# Altium footprint library IC packages.PcbLib: 68 footprints (part 3 of 5)
Each footprint in its own frame and in the unit in brackets; x right, y up, seen from the top. Pads: shape width x height; smd on the part's side, far side on the other; paste and mask are expansions set on the pad; w line width, h text height; cw(c..) or ccw(c..) is an arc to the next point about the centre after c.
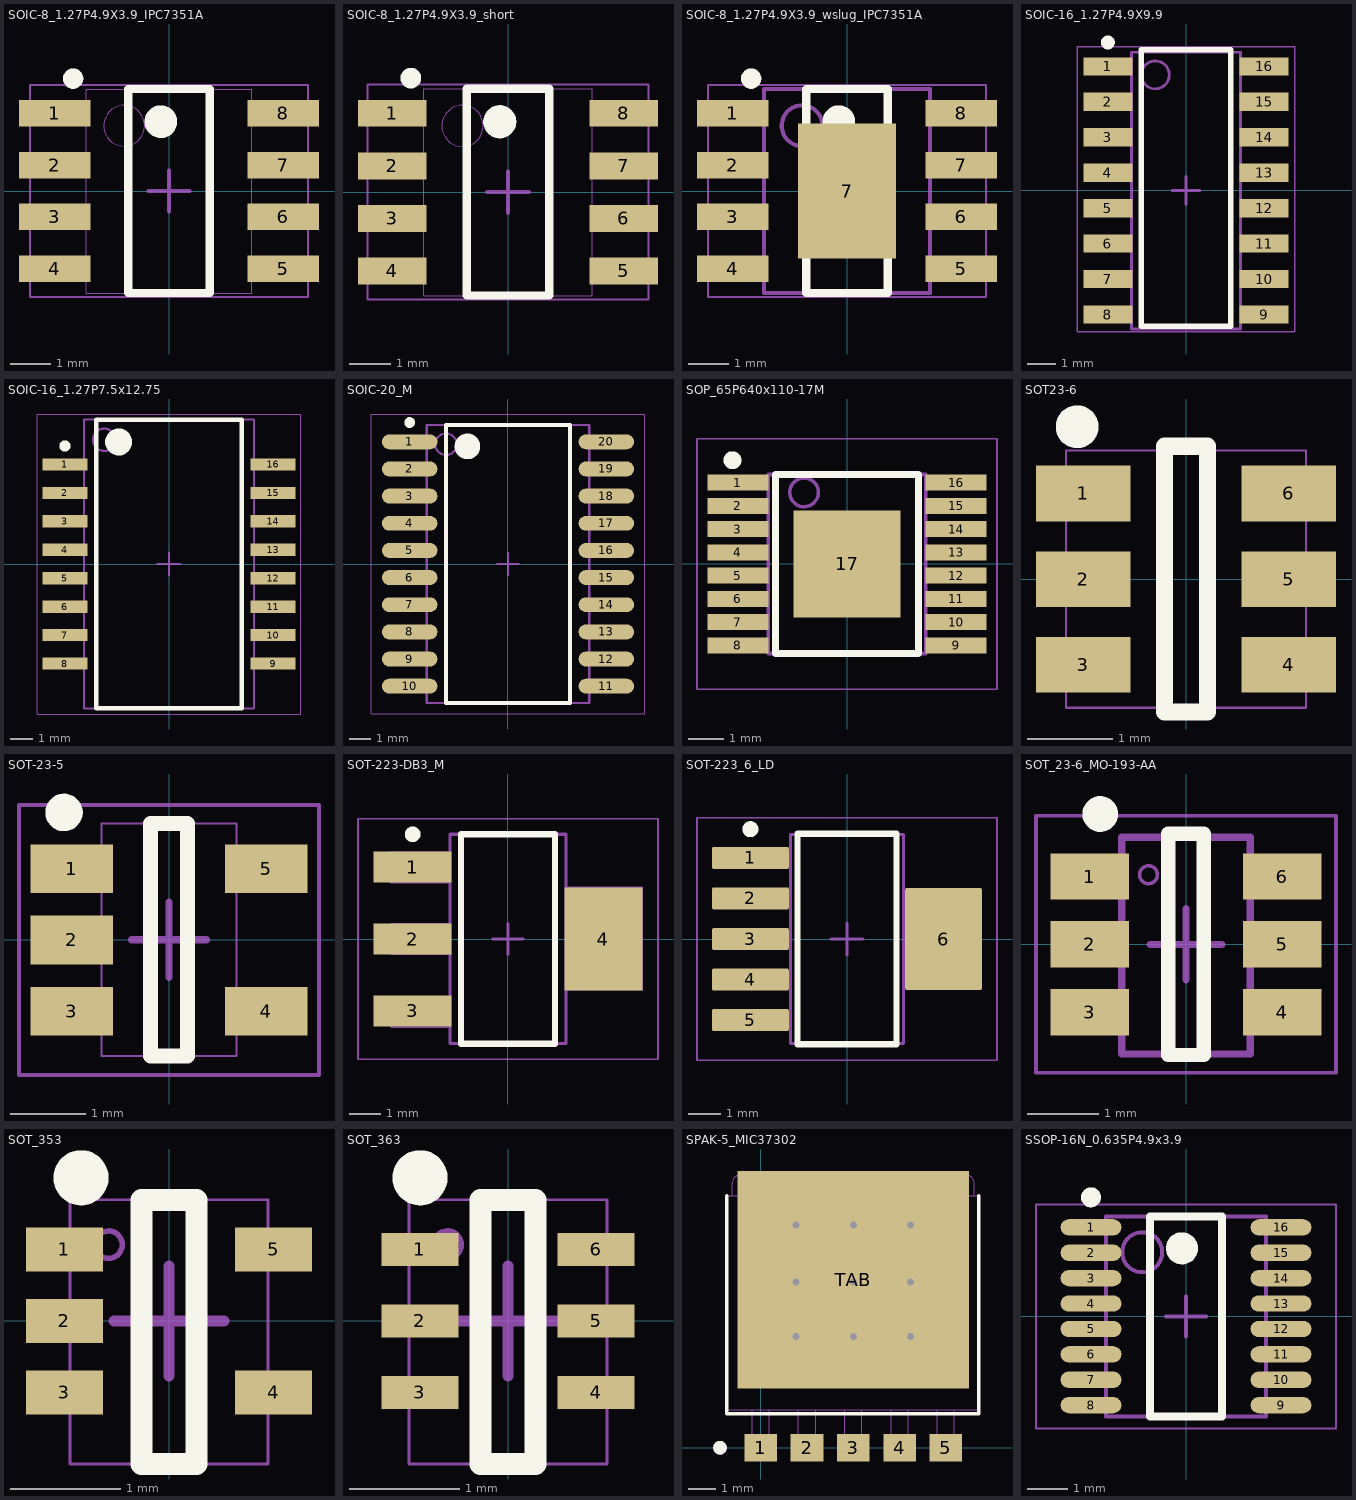
[diagram p2: the footprints below, top view; thin cyan lines are the x and y axes]

## SOIC-8_1.27P4.9X3.9_IPC7351A [mm] "SOIC, 8-Leads, Body 4.90x3.90mm, Pitch 1.27mm, IPC High Density"
height 1.75
pads (8):
  rect 1.75x0.65 smd: 1(-2.8,1.905) 2(-2.8,0.635) 3(-2.8,-0.635) 4(-2.8,-1.905) 5(2.8,-1.905) 6(2.8,-0.635) 7(2.8,0.635) 8(2.8,1.905)
Top Overlay:
  circle w0.25: c-2.35,2.755 r0.125
  circle w0.4: c-0.2,1.7 r0.2
  lines w0.2: -1,-2.5 -1,2.5 1,2.5 1,-2.5 -1,-2.5
Mechanical 1:
  circle w0.025: c-1.1,1.6 r0.5
  lines w0.025: -2.032,-2.5 -2.032,2.5 2.032,2.5 2.032,-2.5 -2.032,-2.5
  text ".Designator" at -1.778,2.794 h1.52
Mechanical 15:
  lines w0.05: -3.4,-2.6 -3.4,2.6 3.4,2.6 3.4,-2.6 -3.4,-2.6
  lines w0.1: -0.5,0 0.5,0 ; 0,-0.5 0,0.5
3D body "SOIC8_JEDEC_MS-012AA.step": height 1.75, standoff -0.01, extent -3.099,-2.5 3.1,2.5

## SOIC-8_1.27P4.9X3.9_short [mm] "SOIC, 8-Leads, Body 4.90x3.90mm, Pitch 1.27mm"
height 1.75
pads (8):
  rect 1.65x0.65 smd: 1(-2.8,1.905) 2(-2.8,0.635) 3(-2.8,-0.635) 4(-2.8,-1.905) 5(2.8,-1.905) 6(2.8,-0.635) 7(2.8,0.635) 8(2.8,1.905)
Top Overlay:
  circle w0.25: c-2.35,2.755 r0.125
  circle w0.4: c-0.2,1.7 r0.2
  lines w0.2: -1,-2.5 -1,2.5 1,2.5 1,-2.5 -1,-2.5
Mechanical 1:
  circle w0.025: c-1.1,1.6 r0.5
  lines w0.025: -2.032,-2.5 -2.032,2.5 2.032,2.5 2.032,-2.5 -2.032,-2.5
  text ".Designator" at -1.778,2.794 h1.52
Mechanical 15:
  lines w0.05: -3.4,-2.6 -3.4,2.6 3.4,2.6 3.4,-2.6 -3.4,-2.6
  lines w0.1: -0.5,0 0.5,0 ; 0,-0.5 0,0.5
3D body "SOIC8_JEDEC_MS-012AA.step": height 1.75, standoff -0.01, extent -3.099,-2.5 3.1,2.5

## SOIC-8_1.27P4.9X3.9_wslug_IPC7351A [mm] "SOIC, 8-Leads, Body 4.90x3.90mm, Pitch 1.27mm, IPC High Density"
height 1.75
pads (9):
  rect 1.75x0.65 smd: 1(-2.8,1.905) 2(-2.8,0.635) 3(-2.8,-0.635) 4(-2.8,-1.905) 5(2.8,-1.905) 6(2.8,-0.635) 7(2.8,0.635) 8(2.8,1.905)
  rect 2.41x3.3 smd: 7(0,0)
Top Overlay:
  circle w0.25: c-2.35,2.755 r0.125
  circle w0.4: c-0.2,1.7 r0.2
  lines w0.2: -1,-2.5 -1,2.5 1,2.5 1,-2.5 -1,-2.5
Mechanical 1:
  text ".Designator" at -0.525,0.95 h1.52
Mechanical 13:
  circle w0.1: c-1.1,1.6 r0.5
  lines w0.1: -2.032,-2.5 -2.032,2.5 2.032,2.5 2.032,-2.5 -2.032,-2.5
Mechanical 15:
  lines w0.05: -3.4,-2.6 -3.4,2.6 3.4,2.6 3.4,-2.6 -3.4,-2.6
  lines w0.1: -0.5,0 0.5,0 ; 0,-0.5 0,0.5
3D body "SOIC8_JEDEC_MS-012AA.step": height 1.75, standoff -0.01, extent -3.099,-2.5 3.1,2.5

## SOIC-16_1.27P4.9X9.9 [mm] "SOIC, 16-Leads, Body 4.90x9.90mm, Pitch 1.27mm"
height 1.75
pads (16):
  rect 1.75x0.65 smd: 1(-2.8,4.445) 2(-2.8,3.175) 3(-2.8,1.905) 4(-2.8,0.635) 5(-2.8,-0.635) 6(-2.8,-1.905) 7(-2.8,-3.175) 8(-2.8,-4.445) 9(2.8,-4.445) 10(2.8,-3.175) 11(2.8,-1.905) 12(2.8,-0.635) 13(2.8,0.635) 14(2.8,1.905) 15(2.8,3.175) 16(2.8,4.445)
Top Overlay:
  circle w0.25: c-2.8,5.3 r0.125
  lines w0.2: -1.6,-4.86 1.6,-4.86 1.6,5.04 -1.6,5.04 -1.6,-4.86
Mechanical 1:
  text ".Designator" at -0.35,2.8 h1.52
Mechanical 13:
  circle w0.1: c-1.1,4.14 r0.5
  lines w0.1: -1.947,-4.96 1.95,-4.96 1.95,4.953 -1.947,4.953 -1.947,-4.96
Mechanical 15:
  lines w0.05: -3.9,-5.06 3.9,-5.06 3.9,5.14 -3.9,5.14 -3.9,-5.06
  lines w0.1: -0.5,0 0.5,0 ; 0,-0.5 0,0.5
3D body "SOIC-16.step": height 1.4, standoff 0, extent -3,-4.95 3,4.95

## SOIC-16_1.27P7.5x12.75 [mm] "SOIC, 16-Leads, Body 7.5x12.75mm, Pitch 1.27mm"
height 1.75
pads (16):
  rect 2x0.55 smd: 1(-4.65,4.445) 2(-4.65,3.175) 3(-4.65,1.905) 4(-4.65,0.635) 5(-4.65,-0.635) 6(-4.65,-1.905) 7(-4.65,-3.175) 8(-4.65,-4.445) 9(4.65,-4.445) 10(4.65,-3.175) 11(4.65,-1.905) 12(4.65,-0.635) 13(4.65,0.635) 14(4.65,1.905) 15(4.65,3.175) 16(4.65,4.445)
Top Overlay:
  circle w0.6: c-2.25,5.45 r0.3
  circle w0.25: c-4.65,5.27 r0.125
  lines w0.2: -3.25,-6.45 3.25,-6.45 3.25,6.45 -3.25,6.45 -3.25,-6.45
Mechanical 1:
  circle w0.1: c-2.9,5.55 r0.5
  lines w0.1: -3.8,-6.45 3.8,-6.45 3.8,6.45 -3.8,6.45 -3.8,-6.45
Mechanical 15:
  lines w0.05: -5.875,-6.7 5.875,-6.7 5.875,6.7 -5.875,6.7 -5.875,-6.7
  lines w0.1: -0.5,0 0.5,0 ; 0,-0.5 0,0.5
3D body: height 2.64, standoff 0.1, extent -3.8,-6.45 3.8,6.45

## SOIC-20_M [mm] "SOIC, 20-Leads, Body 12.8x7.5mm, Pitch 1.27mm, IPC Low Density"
height 2.65
pads (20):
  oval 2.6x0.7 smd: 1(-4.6,5.715) 2(-4.6,4.445) 3(-4.6,3.175) 4(-4.6,1.905) 5(-4.6,0.635) 6(-4.6,-0.635) 7(-4.6,-1.905) 8(-4.6,-3.175) 9(-4.6,-4.445) 10(-4.6,-5.715) 11(4.6,-5.715) 12(4.6,-4.445) 13(4.6,-3.175) 14(4.6,-1.905) 15(4.6,-0.635) 16(4.6,0.635) 17(4.6,1.905) 18(4.6,3.175) 19(4.6,4.445) 20(4.6,5.715)
Top Overlay:
  circle w0.25: c-4.6,6.615 r0.125
  circle w0.6: c-1.9,5.5 r0.3
  lines w0.2: -2.9,-6.5 -2.9,6.5 2.9,6.5 2.9,-6.5 -2.9,-6.5
Mechanical 13:
  circle w0.1: c-2.9,5.6 r0.5
  lines w0.1: -3.8,-6.5 -3.8,6.5 3.8,6.5 3.8,-6.5 -3.8,-6.5
Mechanical 15:
  lines w0.05: -6.4,-7 -6.4,7 6.4,7 6.4,-7 -6.4,-7
  lines w0.1: -0.5,0 0.5,0 ; 0,-0.5 0,0.5
3D body: height 2.65, standoff 0.1, extent -3.8,-6.5 3.8,6.5

## SOP_65P640x110-17M [mm] "TSSOP, 16-Leads, Body 6.4x5.0mm, Pitch 0.65mm, IPC7351"
height 1.2
pads (17):
  rect 1.7x0.45 smd: 1(-3.05,2.275) 2(-3.05,1.625) 3(-3.05,0.975) 4(-3.05,0.325) 5(-3.05,-0.325) 6(-3.05,-0.975) 7(-3.05,-1.625) 8(-3.05,-2.275) 9(3.05,-2.275) 10(3.05,-1.625) 11(3.05,-0.975) 12(3.05,-0.325) 13(3.05,0.325) 14(3.05,0.975) 15(3.05,1.625) 16(3.05,2.275)
  rect 3x3 smd: 17(0,0)
Top Overlay:
  circle w0.25: c-3.2,2.9 r0.125
  lines w0.2: -2,-2.5 2,-2.5 2,2.5 -2,2.5 -2,-2.5
Mechanical 1:
  text ".Designator" at -0.475,1.25 h1.52
Mechanical 13:
  circle w0.1: c-1.2,2 r0.4
  lines w0.1: -2.2,-2.5 2.2,-2.5 2.2,2.5 -2.2,2.5 -2.2,-2.5
Mechanical 15:
  lines w0.05: -4.191,-3.5 4.191,-3.5 4.191,3.5 -4.191,3.5 -4.191,1.191 -4.191,-2.309 -4.191,-3.5
  lines w0.1: -0.5,0 0.5,0 ; 0,-0.5 0,0.5
3D body: height 2, standoff 0.05, extent -2.5,-2.7 2.5,2.7

## SOT23-6 [mm] "SOT23, 6-Leads, Body 3x1.5mm, Pitch 1mm, Lead Span 2.7mm, IPC Medium Density"
height 1.1
pads (6):
  rect 1.1x0.65 smd: 1(-1.2,1) 2(-1.2,0) 3(-1.2,-1) 4(1.2,-1) 5(1.2,0) 6(1.2,1)
Top Overlay:
  circle w0.25: c-1.27,1.778 r0.125
  lines w0.2: -0.25,-1.55 0.25,-1.55 0.25,1.55 -0.25,1.55 -0.25,-1.55
Mechanical 1:
  circle w0.025: c-1,1 r0.224
  lines w0.025: -1.4,-1.3 -1.7,-1.3 -1.7,-0.7 -1.4,-0.7 ; -1.4,-0.3 -1.7,-0.3 -1.7,0.3 -1.4,0.3 ; -1.4,0.7 -1.7,0.7 -1.7,1.3 -1.4,1.3 ; 1.4,-1.3 1.7,-1.3 1.7,-0.7 1.4,-0.7 ; 1.4,-0.3 1.7,-0.3 1.7,0.3 1.4,0.3 ; 1.4,0.7 1.7,0.7 1.7,1.3 1.4,1.3 ; -1.4,-1.5 1.4,-1.5 1.4,1.5 -1.4,1.5 -1.4,-1.5
  text ".Designator" at -0.8,1.7 h1.52
3D body "SOT23-6-2.step": height 1.45, standoff 0, extent -1.4,-1.45 1.4,1.45

## SOT-23-5 [mm] "SOT23-5, 5pin, 3mm x 3mm, 0.95 pitch"
height 1.3
pads (5):
  rect 1.1x0.65 smd: 1(-1.3,0.95) 2(-1.3,0) 3(-1.3,-0.95) 4(1.3,-0.95) 5(1.3,0.95)
Top Overlay:
  circle w0.25: c-1.4,1.7 r0.125
  lines w0.2: -0.25,-1.55 -0.25,1.55 0.25,1.55 0.25,-1.55 -0.25,-1.55
Mechanical 1:
  lines w0.025: -0.9,-1.55 0.9,-1.55 0.9,1.55 -0.9,1.55 -0.9,-1.55
  text ".Designator" at -0.7,2.1 h1.52
Mechanical 15:
  lines w0.05: -2,-1.8 2,-1.8 2,1.8 -2,1.8 -2,-1.8
  lines w0.1: -0.5,0 0.5,0 ; 0,-0.5 0,0.5
3D body "SOT-23-5-1.step": height 1.1, standoff 0, extent -1.25,-1.5 1.25,1.5

## SOT-223-DB3_M [mm] "SOT223, 4-Leads, Body 6.5x3.5mm, Pitch 2.3mm, Lead Span 7mm, IPC Low Density"
height 1.8
pads (4):
  rect 2.5x1 smd: 1(-3.05,2.3) 2(-3.05,0) 3(-3.05,-2.3)
  rect 2.5x3.3 smd: 4(3.05,0)
Top Overlay:
  circle w0.25: c-3.05,3.35 r0.125
  lines w0.2: -1.5,-3.35 1.5,-3.35 1.5,3.35 -1.5,3.35 -1.5,-3.35
Mechanical 1:
  lines w0.051: -1.854,2.769 -3.759,2.769 -3.759,1.803 -1.85,1.803 ; -1.829,-1.854 -3.734,-1.854 -3.734,-2.819 -1.825,-2.819 ; -1.829,0.483 -3.734,0.483 -3.734,-0.483 -1.825,-0.483 ; 1.85,-1.626 4.293,-1.626 4.293,1.651 1.854,1.651
  lines w0.1: -1.85,-3.35 1.85,-3.35 1.85,3.35 -1.85,3.35 -1.85,-3.35
  text ".Designator" at -0.254,1.143 h1.02
Mechanical 15:
  lines w0.05: -4.8,-3.85 4.8,-3.85 4.8,3.85 -4.8,3.85 -4.8,-3.85
  lines w0.1: -0.5,0 0.5,0 ; 0,-0.5 0,0.5
3D body: height 1.8, standoff 0.02, extent -1.85,-3.35 1.85,3.35

## SOT-223_6_LD [mm] "SOT223, 6-Leads, Body 6.55x3.55mm, Pitch 1.27mm, IPC Low Density"
height 1.8
pads (6):
  rrect14% 2.4x0.7 smd: 1(-3.025,2.54) 2(-3.025,1.27) 3(-3.025,0) 4(-3.025,-1.27) 5(-3.025,-2.54)
  rrect4% 2.4x3.2 smd: 6(3.025,0)
Top Overlay:
  circle w0.25: c-3.025,3.44 r0.125
  lines w0.2: -1.55,-3.3 1.55,-3.3 1.55,3.3 -1.55,3.3 -1.55,-3.3
Mechanical 1:
  text ".Designator" at -1.397,-0.381 h0.8
Mechanical 13:
  lines w0.1: -1.775,-3.275 1.775,-3.275 1.775,3.275 -1.775,3.275 -1.775,-3.275
Mechanical 15:
  lines w0.05: -4.7,-3.8 4.7,-3.8 4.7,3.8 -4.7,3.8 -4.7,-3.8
  lines w0.1: -0.5,0 0.5,0 ; 0,-0.5 0,0.5
3D body "DCQ0006AakaMP06A.stp": height 1.64, standoff -0.04, extent -3.48,-3.25 3.48,3.25

## SOT_23-6_MO-193-AA [mm] "SOT23, 6pin, 3mm x 3mm, 0.95 pitch"
height 1.1
pads (6):
  rect 1.1x0.65 smd: 1(-1.35,0.95) 2(-1.35,0) 3(-1.35,-0.95) 4(1.35,-0.95) 5(1.35,0) 6(1.35,0.95)
Top Overlay:
  circle w0.25: c-1.2,1.825 r0.125
  lines w0.2: -0.25,-1.55 0.25,-1.55 0.25,1.55 -0.25,1.55 -0.25,-1.55
Mechanical 1:
  circle w0.05: c-0.525,0.975 r0.125
  text ".Designator" at -0.75,1.8 h1.52
Mechanical 13:
  lines w0.1: -0.9,-1.535 -0.9,1.5 0.9,1.5 0.9,-1.535 -0.9,-1.535
Mechanical 15:
  lines w0.05: -2.1,-1.8 -2.1,1.8 2.1,1.8 2.1,-1.8 -2.1,-1.8
  lines w0.1: -0.5,0 0.5,0 ; 0,-0.5 0,0.5
3D body: height 1, standoff 0.01, extent -0.875,-1.535 0.875,1.535

## SOT_353 [mm] "SOT353, 5pin, 2mm x 1.25mm, 0.65 pitch"
height 1
pads (5):
  rect 0.7x0.4 smd: 1(-0.95,0.65) 2(-0.95,0) 3(-0.95,-0.65) 4(0.95,-0.65) 5(0.95,0.65)
Top Overlay:
  circle w0.25: c-0.8,1.3 r0.125
  lines w0.2: -0.25,-1.3 0.25,-1.3 0.25,1.1 -0.25,1.1 -0.25,-1.3
Mechanical 1:
  circle w0.05: c-0.55,0.692 r0.125
  lines w0.025: -0.9,-1.3 -0.9,1.1 0.9,1.1 0.9,-1.3 -0.9,-1.3
  text ".Designator" at -0.25,1.425 h1
Mechanical 15:
  lines w0.1: -0.5,0 0.5,0 ; 0,-0.5 0,0.5
3D body "SOT353.step": height 1.1, standoff 0, extent -1.2,-1.1 1.2,1.1

## SOT_363 [mm] "SOT363, 6pin, 2mm x 1.25mm, 0.65 pitch"
height 1
pads (6):
  rect 0.7x0.3 smd: 1(-0.8,0.65) 2(-0.8,0) 3(-0.8,-0.65) 4(0.8,-0.65) 5(0.8,0) 6(0.8,0.65)
Top Overlay:
  circle w0.25: c-0.8,1.3 r0.125
  lines w0.2: -0.25,-1.3 0.25,-1.3 0.25,1.1 -0.25,1.1 -0.25,-1.3
Mechanical 1:
  circle w0.05: c-0.55,0.692 r0.125
  lines w0.025: -0.9,-1.3 -0.9,1.1 0.9,1.1 0.9,-1.3 -0.9,-1.3
  text ".Designator" at -0.45,1.3 h1.52
Mechanical 15:
  lines w0.1: -0.5,0 0.5,0 ; 0,-0.5 0,0.5
3D body "SOT363-2.STEP": height 1.1, standoff 0, extent -1.2,-1.1 1.2,1.1

## SPAK-5_MIC37302 [mm] "SPAK, 5 lead + TAB"
height 2.032
pads (6):
  rect 1.2x1 smd: 1(0,0) 2(1.7,0) 3(3.4,0) 4(5.1,0) 5(6.8,0)
  rect 8.5x8 smd paste-8.5: TAB(3.4,6.17)
via 1.3,8.185 diameter 0.635 hole 0.254
via 1.3,6.085 diameter 0.635 hole 0.254
via 1.3,4.085 diameter 0.635 hole 0.254
via 3.4,4.085 diameter 0.635 hole 0.254
via 3.4,6.085 diameter 0.635 hole 0.254
via 3.4,8.185 diameter 0.635 hole 0.254
via 5.5,4.085 diameter 0.635 hole 0.254
via 5.5,6.085 diameter 0.635 hole 0.254
via 5.5,8.185 diameter 0.635 hole 0.254
Top Overlay:
  circle w0.25: c-1.5,0 r0.125
  lines w0.127: -1.25,9.25 -1.25,1.25 8,1.25 8,9.25
Top Paste:
  rectangle: -0.5,8.385 1,9.885
  rectangle: 1.6,8.385 3.1,9.885
  rectangle: 3.7,8.385 5.2,9.885
  rectangle: 5.8,8.385 7.3,9.885
  rectangle: 5.8,6.385 7.3,7.885
  rectangle: 3.7,6.385 5.2,7.885
  rectangle: 1.6,6.385 3.1,7.885
  rectangle: -0.5,6.385 1,7.885
  rectangle: -0.5,4.385 1,5.885
  rectangle: 1.6,4.385 3.1,5.885
  rectangle: 3.7,4.385 5.2,5.885
  rectangle: 5.8,4.385 7.3,5.885
  rectangle: -0.5,2.385 1,3.885
  rectangle: 1.6,2.385 3.1,3.885
  rectangle: 3.7,2.385 5.2,3.885
  rectangle: 5.8,2.385 7.3,3.885
Mechanical 1:
  circle w0.1: c-1.5,-0.015 r0.202
  lines w0.013: -0.315,-0.395 -0.315,1.385 0.315,1.385 0.315,-0.395 ; -0.315,-0.395 0.315,-0.395 ; -0.315,-0.395 -0.315,0.395 0.315,0.395 0.315,-0.395 ; -0.315,-0.395 0.315,-0.395 ; 1.385,-0.395 1.385,1.385 2.015,1.385 2.015,-0.395 ; 1.385,-0.395 2.015,-0.395 ; 1.385,-0.395 1.385,0.395 2.015,0.395 2.015,-0.395 ; 1.385,-0.395 2.015,-0.395 ; 3.085,-0.395 3.085,1.385 3.715,1.385 3.715,-0.395 ; 3.085,-0.395 3.715,-0.395 ; 3.085,-0.395 3.085,0.395 3.715,0.395 3.715,-0.395 ; 3.085,-0.395 3.715,-0.395 ; 4.785,-0.395 4.785,1.385 5.415,1.385 5.415,-0.395 ; 4.785,-0.395 5.415,-0.395 ; 4.785,-0.395 4.785,0.395 5.415,0.395 5.415,-0.395 ; 4.785,-0.395 5.415,-0.395 ; 6.485,-0.395 6.485,1.385 7.115,1.385 7.115,-0.395 ; 6.485,-0.395 7.115,-0.395 ; 6.485,-0.395 6.485,0.395 7.115,0.395 7.115,-0.395 ; 6.485,-0.395 7.115,-0.395 ; -1.235,1.385 8.035,1.385 8.035,9.255 -1.235,9.255 -1.235,1.385 ; -1.045,9.255 -1.045,9.715 cw(c-0.745,9.715) -0.745,10.015 7.545,10.015 cw(c7.545,9.715) 7.845,9.715 7.845,9.255 -1.045,9.255
  text ".Designator" at 2.55,5 h1.52
3D body: height 0.25, standoff 0, extent -1.05,9.25 7.85,10.025
3D body: height 1.78, standoff 0, extent -1.225,1.375 8.025,9.25
3D body: height 0.25, standoff 0, extent -0.325,-0.4 0.325,1.375
3D body: height 0.25, standoff 0, extent 1.375,-0.4 2.025,1.375
3D body: height 0.25, standoff 0, extent 3.075,-0.4 3.725,1.375
3D body: height 0.25, standoff 0, extent 4.775,-0.4 5.425,1.375
3D body: height 0.25, standoff 0, extent 6.475,-0.4 7.125,1.375

## SSOP-16N_0.635P4.9x3.9 [mil] "SOP, 16-Leads, Body 4.9x3.9mm, Pitch 0.635mm, IPC Medium Density"
height 69.29
pads (16):
  oval 60x16 smd: 1(-93.5,87.5) 2(-93.5,62.5) 3(-93.5,37.5) 4(-93.5,12.5) 5(-93.5,-12.5) 6(-93.5,-37.5) 7(-93.5,-62.5) 8(-93.5,-87.5) 9(93.5,-87.5) 10(93.5,-62.5) 11(93.5,-37.5) 12(93.5,-12.5) 13(93.5,12.5) 14(93.5,37.5) 15(93.5,62.5) 16(93.5,87.5)
Top Overlay:
  circle w15.75: c-3.94,66.93 r7.87
  circle w9.84: c-93.5,117.03 r4.92
  lines w7.87: -35.43,-98.43 35.43,-98.43 35.43,98.43 -35.43,98.43 -35.43,-98.43
Mechanical 1:
  circle w3.94: c-43.11,62.99 r19.68
  lines w3.94: -78.54,-98.43 78.54,-98.43 78.54,98.43 -78.54,98.43 -78.54,-98.43
  text ".Designator" at -16.73,38.39 h60
Mechanical 15:
  lines w1.97: -147.64,-110.24 147.64,-110.24 147.64,110.24 -147.64,110.24 -147.64,-110.24
  lines w3.94: -19.68,0 19.69,0 ; 0,-19.68 0,19.68
3D body: height 69.29, standoff 3.94, extent -78.54,-98.43 78.54,98.43